# Altium footprint library PcbLib.PcbLib: 28 footprints (part 1 of 2)
Each footprint in its own frame and in the unit in brackets; x right, y up, seen from the top. Pads: shape width x height; smd on the part's side, far side on the other; paste and mask are expansions set on the pad; w line width, h text height; cw(c..) or ccw(c..) is an arc to the next point about the centre after c.
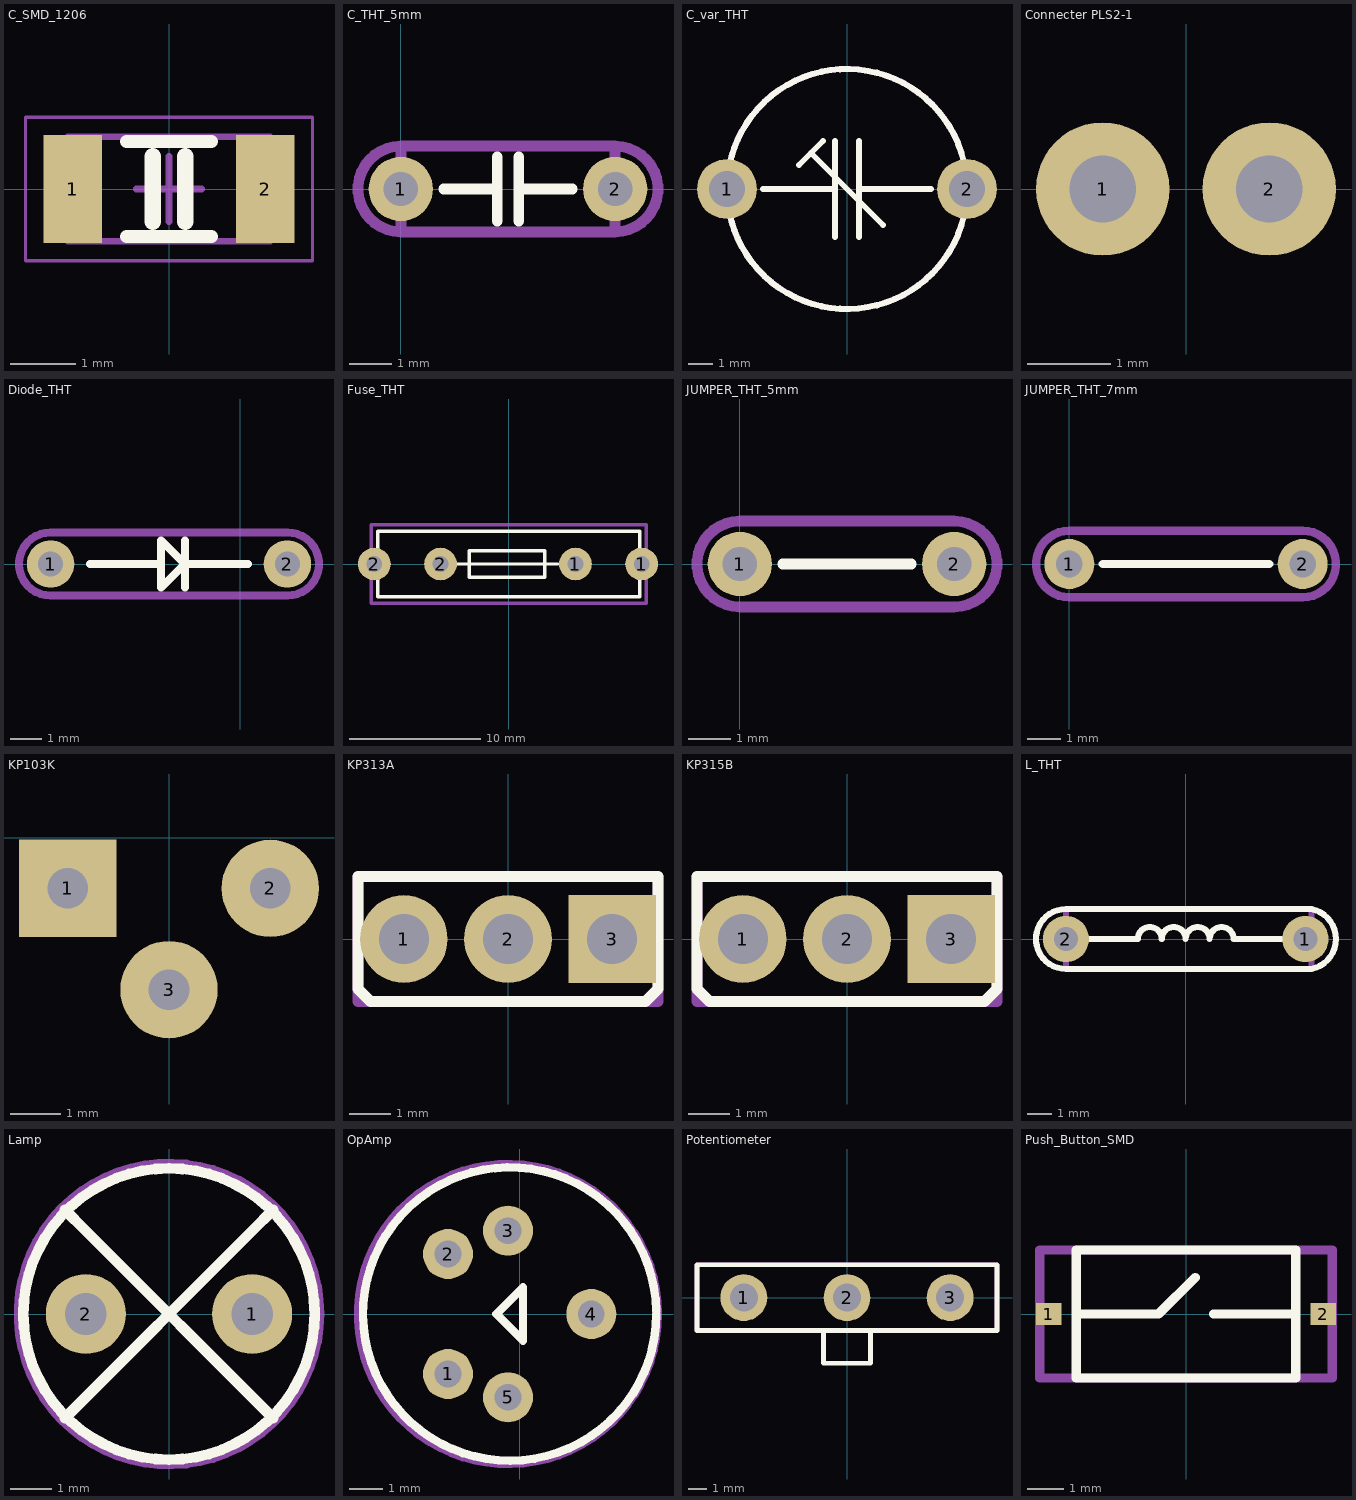
[diagram p0: the footprints below, top view; thin cyan lines are the x and y axes]

## C_SMD_1206 [mm] "Chip Resistor, 2-Leads, Body 3,10x1,60mm, IPC Medium Density"
height 0.55
pads (2):
  rect 0.9x1.65 smd: 1(-1.475,0) 2(1.475,0)
Top Overlay:
  lines w0.2: -0.65,-0.725 0.65,-0.725 ; -0.65,0.725 0.65,0.725
  lines w0.254: -0.25,-0.5 -0.25,0.5 ; 0.25,-0.5 0.25,0.5
Mechanical 13:
  lines w0.1: -1.55,-0.8 1.55,-0.8 1.55,0.8 -1.55,0.8 -1.55,-0.8
Mechanical 15:
  lines w0.05: -2.2,-1.1 2.2,-1.1 2.2,1.1 -2.2,1.1 -2.2,-1.1
  lines w0.1: -0.5,0 0.5,0 ; 0,-0.5 0,0.5
3D body: height 0.55, standoff 0, extent 1.05,-0.8 1.55,0.8
3D body: height 0.55, standoff 0, extent -1.55,-0.8 -1.05,0.8
3D body: height 0.55, standoff 0, extent -1.05,-0.8 1.05,0.8

## C_THT_5mm [mm]
pads (2):
  round 1.5 hole 0.8: 1(0,0) 2(5,0)
Top Overlay:
  lines w0.254: 1,0 2.25,0 ; 2.25,-0.75 2.25,0.75 ; 2.75,-0.75 2.75,0.75 ; 2.75,0 4,0
Mechanical 1:
  lines w0.254: 0,-1 5,-1 5,1 0,1 0,-1
Mechanical 13:
  lines w0.254: 0,-1 cw(c0,0) 0,1 5,1 cw(c5,0) 5,-1 0,-1
3D body "cdisk_p5x1_d6-75_th2-5.stp": height 7.83, standoff -3.9, extent -1.061,-1.924 6.06,1.924

## C_var_THT [mm]
pads (2):
  round 2.5 hole 1.5: 1(-5,0) 2(5,0)
Top Overlay:
  circle w0.254: c0,0 r5
  lines w0.254: -3.5,0 -0.5,0 ; -2,1 -1,2 ; -1.5,1.5 1.5,-1.5 ; -0.5,-2 -0.5,2 ; 0.5,-2 0.5,2 ; 0.5,0 3.5,0
Mechanical 1:
  circle w0.254: c0,0 r5
  circle w0.254: c0,0 r5
3D body "Trimmer variable capacitor.step": height 3, standoff -8.5, extent -5.28,-5 5.28,5

## Connecter PLS2-1 [mm]
pads (2):
  round 1.6 hole 0.8: 1(-1,0) 2(1,0)
3D body "PLS2-2.step": height 6, standoff -2.8, extent -2,-1 2,1

## Diode_THT [mm]
pads (2):
  round 1.5 hole 0.8: 1(-6,0) 2(1.5,0)
Top Overlay:
  lines w0.254: -4.75,0 -2.5,0 ; -1.75,-0.75 -1.75,0.75 ; 0.25,0 -1.75,0 ; -2.5,0 -2.5,-0.75 -1.75,0 ; -2.5,0 -2.5,0.75 -1.75,0
Mechanical 13:
  lines w0.254: -6,-1 cw(c-6,0) -6,1 1.5,1 cw(c1.5,0) 1.5,-1 -6,-1
3D body "DO-35 (1).step": height 3.01, standoff -2, extent -6.31,-0.999 1.81,0.999

## Fuse_THT [mm]
pads (4):
  round 2.5 hole 1.2: 1(5.1,0) 1(10.15,0) 2(-10.25,0) 2(-5.2,0)
Top Overlay:
  lines w0.254: -4,0 3.75,0 ; -10,-2.5 10,-2.5 10,2.5 -10,2.5 -10,-2.5 ; -3,-1 2.75,-1 2.75,1 -3,1 -3,-1
Mechanical 1:
  lines w0.254: -10.5,-3 10.5,-3 10.5,3 -10.5,3 -10.5,-3
3D body "FuseHolder 5x20mm.step": height 4.2, standoff -9.47, extent -10.5,-2.848 10.3,2.832

## JUMPER_THT_5mm [mm]
pads (2):
  round 1.5 hole 0.8: 1(0,0) 2(5,0)
Top Overlay:
  lines w0.254: 1,0 1.25,0 2.25,0 4,0
Mechanical 13:
  lines w0.254: 0,-1 cw(c0,0) 0,1 5,1 cw(c5,0) 5,-1 0,-1
3D body "jumper.stp": height 4.3, standoff -1, extent -0.3,-0.298 5.3,0.298

## JUMPER_THT_7mm [mm]
pads (2):
  round 1.5 hole 0.8: 1(0,0) 2(7,0)
Top Overlay:
  lines w0.254: 1,0 1.25,0 2.25,0 6,0
Mechanical 13:
  lines w0.254: 0,-1 cw(c0,0) 0,1 7,1 cw(c7,0) 7,-1 0,-1
3D body "jumper_7mm.stp": height 3.3, standoff -2, extent -0.3,-0.298 7.3,0.298

## KP103K [mm]
pads (3):
  rect 1.924x1.924 hole 0.8: 1(-2,-1)
  round 1.924 hole 0.8: 2(2,-1) 3(0,-3)
3D body "User Library-KP103.STEP": height 11.3, standoff -1, extent -4.094,-5.77 4.77,3.094

## KP313A [mm]
pads (3):
  round 2.1 hole 1.2: 1(-2.5,0) 2(0,0)
  rect 2.1x2.1 hole 1.2: 3(2.5,0)
Top Overlay:
  lines w0.254: -3.6,-1.1 -3.6,-1 ; -3.6,-1.2 -3.6,1.5 3.6,1.5 3.6,-1.2 3.3,-1.5 -3.3,-1.5 -3.6,-1.2
Mechanical 1:
  lines w0.254: -3.6,-1.5 3.6,-1.5 3.6,1.5 -3.6,1.5 -3.6,-1.5
3D body "KT-13_1.STEP": height 5, standoff -6, extent -3.6,-1.5 3.6,1.5

## KP315B [mm]
pads (3):
  round 2.1 hole 1.2: 1(-2.5,0) 2(0,0)
  rect 2.1x2.1 hole 1.2: 3(2.5,0)
Top Overlay:
  lines w0.254: -3.6,-1.1 -3.6,-1 ; -3.6,-1.2 -3.3,-1.5 3.3,-1.5 3.6,-1.2 3.6,1.5 -3.6,1.5 -3.6,-1.2
Mechanical 1:
  lines w0.254: -3.6,-1.5 -3.6,1.5 3.6,1.5 3.6,-1.5 -3.6,-1.5
3D body "KT-13_1.STEP": height 5, standoff -6, extent -3.6,-1.5 3.6,1.5

## L_THT [mm]
pads (2):
  round 1.924 hole 1: 1(5,0) 2(-5,0)
Top Overlay:
  lines w0.254: -4,0 -2,0 cw(c-1.5,0) -1,0 cw(c-0.5,0) 0,0 cw(c0.5,0) 1,0 cw(c1.5,0) 2,0 4,0 ; -5,-1.25 cw(c-5,0) -5,1.25 5.25,1.25 cw(c5,0) 5.25,-1.25 -5,-1.25
Mechanical 1:
  lines w0.254: -5,-1.25 -5,1.25 5,1.25 5.25,1.25 5.25,-1.25 -5,-1.25
3D body "INDAD1020W60L680D300 v1.step": height 0.9, standoff -4.49, extent -5.4,-1.5 5.4,1.5

## Lamp [mm]
pads (2):
  round 1.924 hole 1: 1(2,0) 2(-2,0)
Top Overlay:
  circle w0.254: c0,0 r3.5
  lines w0.254: -2.5,-2.5 2,2 2.5,2.5 ; -2.5,2.5 -2,2 2.5,-2.5
Mechanical 1:
  circle w0.254: c0,0 r3.606
3D body "G4-halogen.step": height 7, standoff -25, extent -4.622,-4.659 4.622,4.559

## OpAmp [mm]
pads (5):
  round 1.5 hole 0.8: 1(-2.15,-1.8) 2(-2.15,1.8) 3(-0.35,2.5) 4(2.15,0) 5(-0.35,-2.5)
Top Overlay:
  lines w0.254: 4.1,0 cw(c-0.3,0) 4.099,0.096 ; -0.7,0 0.1,-0.8 0.1,0.8 -0.7,0
Mechanical 1:
  circle w0.254: c-0.35,0 r4.5
3D body "LF156H TO-99 8 Pin Operational Amplifier AMD.step": height 1.5, standoff -6.3, extent -5.05,-4.7 4.35,5.84

## Potentiometer [mm]
pads (3):
  round 2.5 hole 1.5: 1(-5.5,0) 2(0,0) 3(5.5,0)
Top Overlay:
  lines w0.254: -1.25,-1.75 -1.25,-3.5 1.25,-3.5 1.25,-1.75 ; -8,-1.75 8,-1.75 8,1.75 -8,1.75 -8,-1.75
Mechanical 1:
  lines w0.254: -8,-1.75 8,-1.75 ; -8,-1.75 -8,1.75 ; -8,-1.75 8,-1.75 ; -8,-1.75 -8,1.75 ; -8,1.75 8,1.75 ; -8,1.75 8,1.75 ; 8,-1.75 8,1.75 ; 8,-1.75 8,1.75
Mechanical 13:
  lines w0.254: -8,-1.75 8,-1.75 8,1.75 -8,1.75 -8,-1.75
Mechanical 15:
  lines w0.254: -8,-1.75 8,-1.75 8,1.75 -8,1.75 -8,-1.75
3D body "potenciometro bk10.STEP": height 21.99, standoff -4.26, extent -8,-22.55 8,5.75

## Push_Button_SMD [mm]
pads (2):
  rect 0.7x0.6 smd: 1(-3.75,0) 2(3.75,0)
Top Overlay:
  lines w0.254: -3,0 -0.75,0 0.25,1 ; 0.75,0 3,0 ; -3,-1.75 3,-1.75 3,1.75 -3,1.75 -3,-1.75
Mechanical 1:
  lines w0.254: -4,-1.75 4,-1.75 4,1.75 -4,1.75 -4,-1.75
3D body "G73 button.STEP": height 2.5, standoff 0, extent -4,-1.75 4,1.75